# EAGLE library part MIC4427 (library andereBauteile)
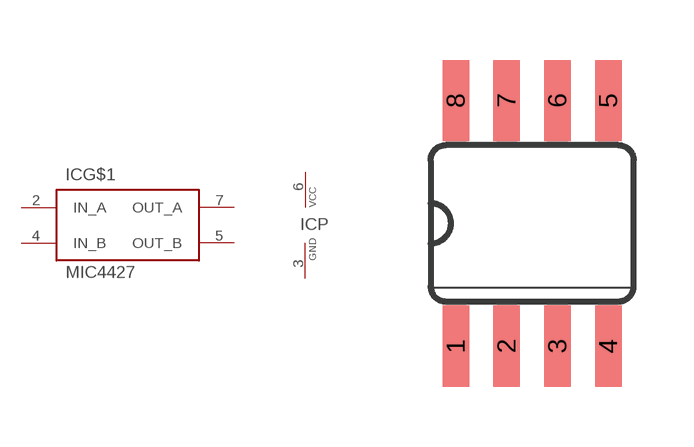
[diagram p25: symbol with the pads of SO08; footprint SO08]

Designator prefix IC; gates P=VCC-GND G$1=MIC4427

## MIC4427_SMD  [SO08]
2  G$1:IN_A
3  P:GND  pwr
4  G$1:IN_B
5  G$1:OUT_B
6  P:VCC  pwr
7  G$1:OUT_A

## Footprint SO08 (pad centres in mm)
smd 0.66 x 2.032: 1 -1.905,-3.073; 2 -0.635,-3.073; 3 0.635,-3.073; 4 1.905,-3.073; 5 1.905,3.073; 6 0.635,3.073; 7 -0.635,3.073; 8 -1.905,3.073